# Altium schematic symbol library resistor.SCHLIB: 767 symbols (part 3 of 4)
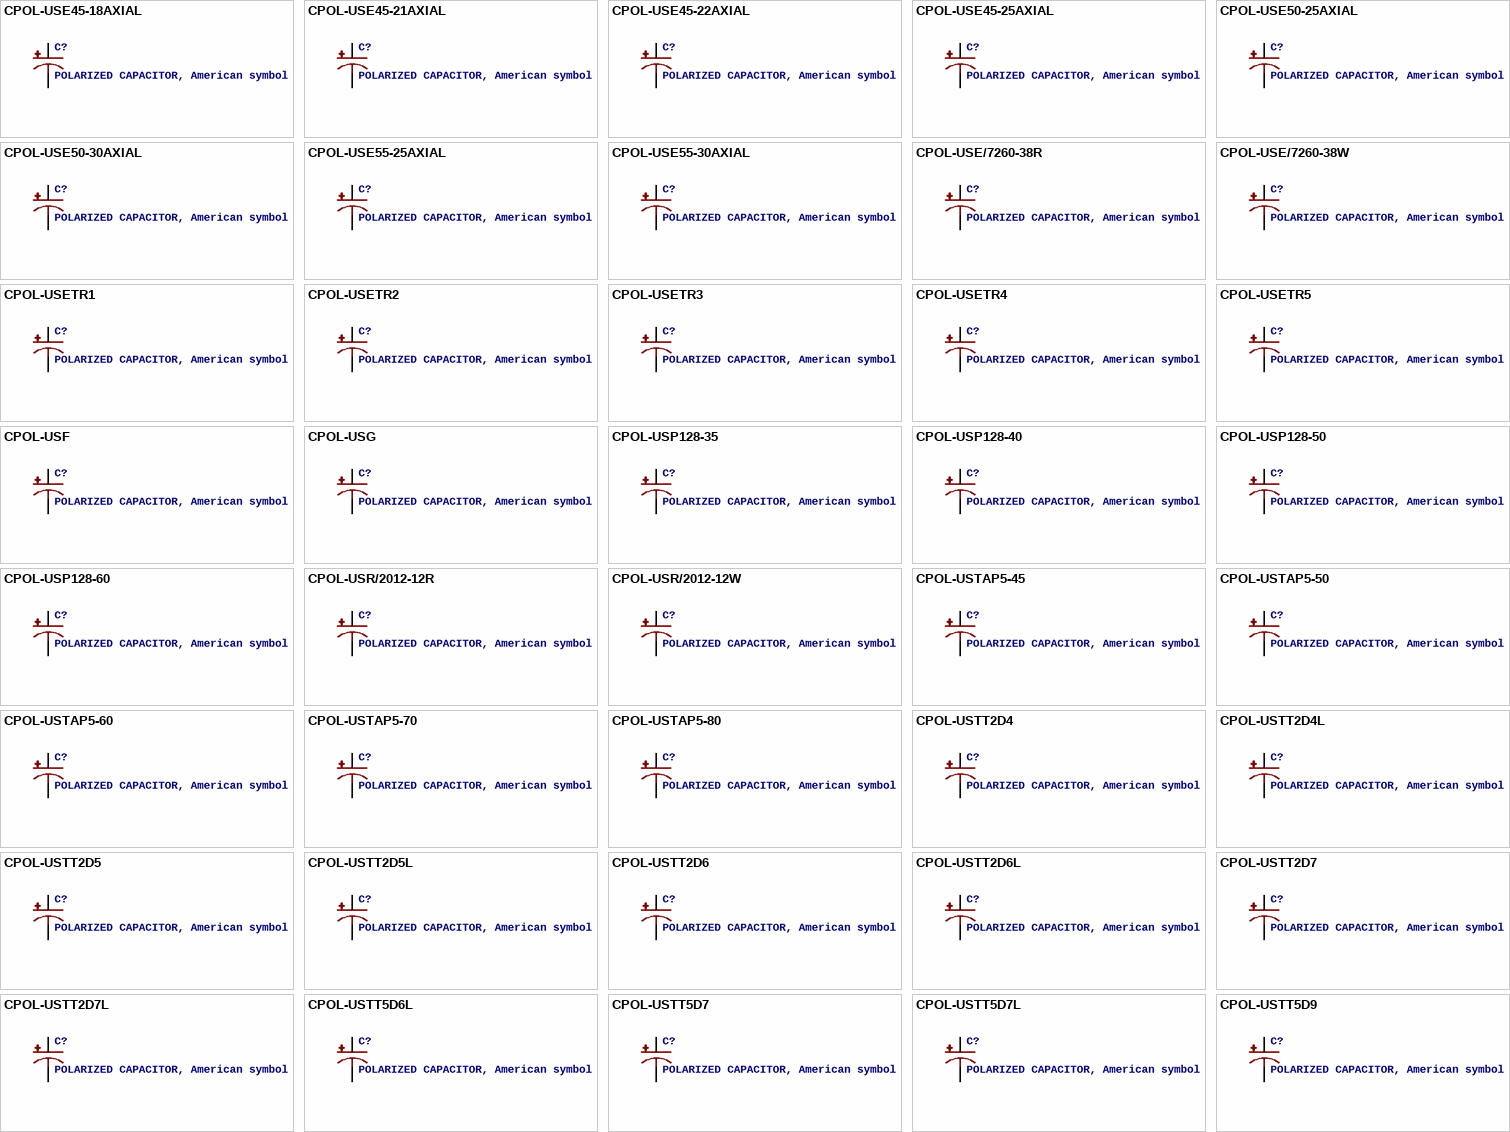
[diagram p21: symbols CPOL-USE45-18AXIAL to CPOL-USTT5D9]

## CPOL-USTT2D4L
designator C?, comment POLARIZED CAPACITOR, American symbol
GateName_1: G$1; SymbolName_1: CPOL-US; DeviceName: TT2D4L; LibraryName: resistor; DeviceSetName: CPOL-US; Package: TT2D4L
footprint TT2D4L
pins: +, -

## CPOL-USTT2D5
designator C?, comment POLARIZED CAPACITOR, American symbol
GateName_1: G$1; SymbolName_1: CPOL-US; DeviceName: TT2D5; LibraryName: resistor; DeviceSetName: CPOL-US; Package: TT2D5
footprint TT2D5
pins: +, -

## CPOL-USTT2D5L
designator C?, comment POLARIZED CAPACITOR, American symbol
GateName_1: G$1; SymbolName_1: CPOL-US; DeviceName: TT2D5L; LibraryName: resistor; DeviceSetName: CPOL-US; Package: TT2D5L
footprint TT2D5L
pins: +, -

## CPOL-USTT2D6
designator C?, comment POLARIZED CAPACITOR, American symbol
GateName_1: G$1; SymbolName_1: CPOL-US; DeviceName: TT2D6; LibraryName: resistor; DeviceSetName: CPOL-US; Package: TT2D6
footprint TT2D6
pins: +, -

## CPOL-USTT2D6L
designator C?, comment POLARIZED CAPACITOR, American symbol
GateName_1: G$1; SymbolName_1: CPOL-US; DeviceName: TT2D6L; LibraryName: resistor; DeviceSetName: CPOL-US; Package: TT2D6L
footprint TT2D6L
pins: +, -

## CPOL-USTT2D7
designator C?, comment POLARIZED CAPACITOR, American symbol
GateName_1: G$1; SymbolName_1: CPOL-US; DeviceName: TT2D7; LibraryName: resistor; DeviceSetName: CPOL-US; Package: TT2D7
footprint TT2D7
pins: +, -

## CPOL-USTT2D7L
designator C?, comment POLARIZED CAPACITOR, American symbol
GateName_1: G$1; SymbolName_1: CPOL-US; DeviceName: TT2D7L; LibraryName: resistor; DeviceSetName: CPOL-US; Package: TT2D7L
footprint TT2D7L
pins: +, -

## CPOL-USTT5D6L
designator C?, comment POLARIZED CAPACITOR, American symbol
GateName_1: G$1; SymbolName_1: CPOL-US; DeviceName: TT5D6L; LibraryName: resistor; DeviceSetName: CPOL-US; Package: TT5D6L
footprint TT5D6L
pins: +, -

## CPOL-USTT5D7
designator C?, comment POLARIZED CAPACITOR, American symbol
GateName_1: G$1; SymbolName_1: CPOL-US; DeviceName: TT5D7; LibraryName: resistor; DeviceSetName: CPOL-US; Package: TT5D7
footprint TT5D7
pins: +, -

## CPOL-USTT5D7L
designator C?, comment POLARIZED CAPACITOR, American symbol
GateName_1: G$1; SymbolName_1: CPOL-US; DeviceName: TT5D7L; LibraryName: resistor; DeviceSetName: CPOL-US; Package: TT5D7L
footprint TT5D7L
pins: +, -

## CPOL-USTT5D9
designator C?, comment POLARIZED CAPACITOR, American symbol
GateName_1: G$1; SymbolName_1: CPOL-US; DeviceName: TT5D9; LibraryName: resistor; DeviceSetName: CPOL-US; Package: TT5D9
footprint TT5D9
pins: +, -

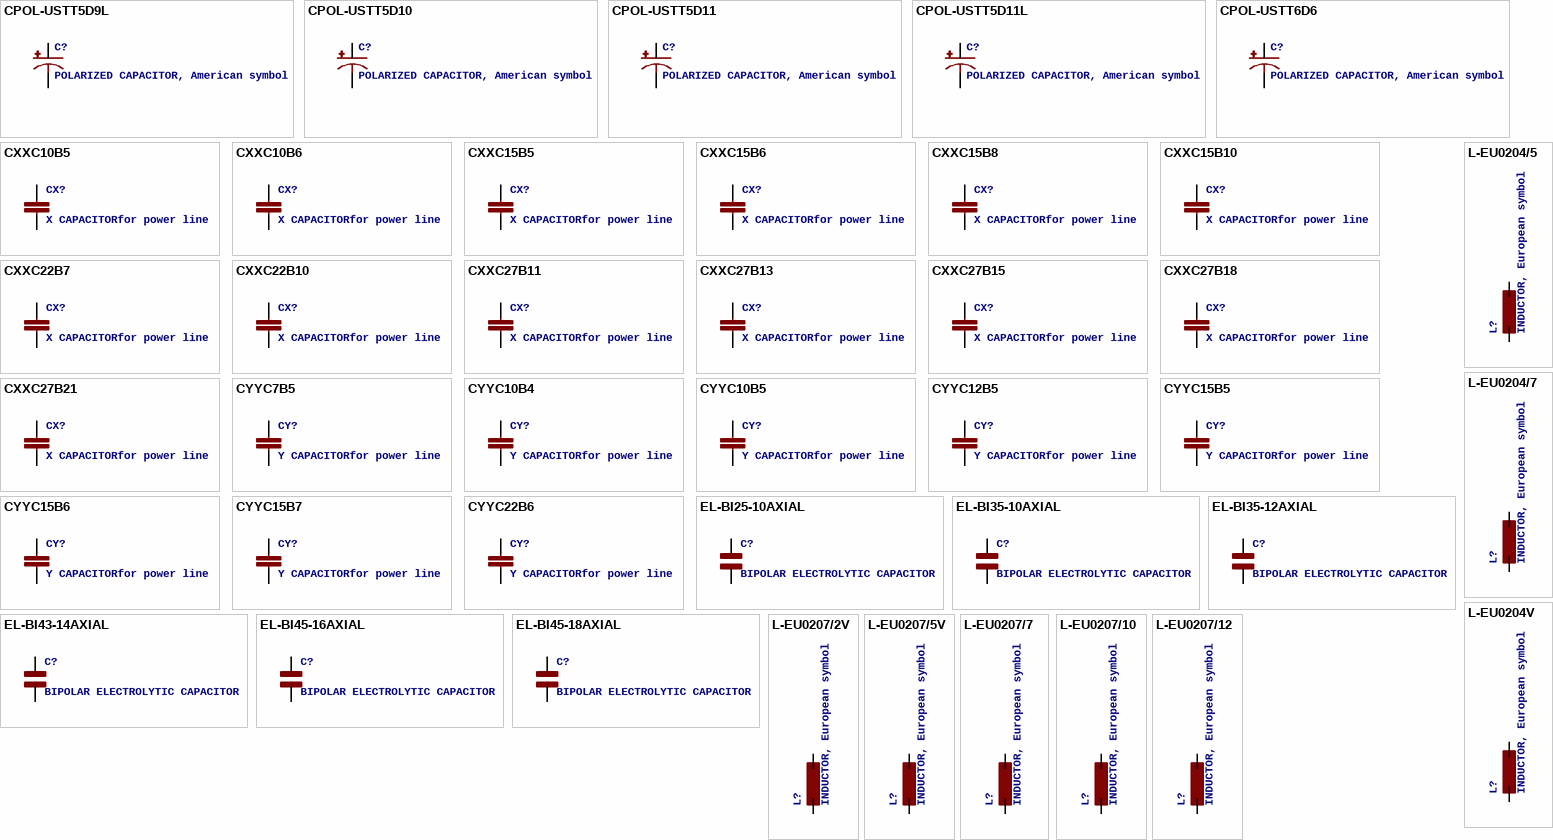
[diagram p11: symbols CPOL-USTT5D9L to L-EU0207/12]

## CPOL-USTT5D9L
designator C?, comment POLARIZED CAPACITOR, American symbol
GateName_1: G$1; SymbolName_1: CPOL-US; DeviceName: TT5D9L; LibraryName: resistor; DeviceSetName: CPOL-US; Package: TT5D9L
footprint TT5D9L
pins: +, -

## CPOL-USTT5D10
designator C?, comment POLARIZED CAPACITOR, American symbol
GateName_1: G$1; SymbolName_1: CPOL-US; DeviceName: TT5D10; LibraryName: resistor; DeviceSetName: CPOL-US; Package: TT5D10
footprint TT5D10
pins: +, -

## CPOL-USTT5D11
designator C?, comment POLARIZED CAPACITOR, American symbol
GateName_1: G$1; SymbolName_1: CPOL-US; DeviceName: TT5D11; LibraryName: resistor; DeviceSetName: CPOL-US; Package: TT5D11
footprint TT5D11
pins: +, -

## CPOL-USTT5D11L
designator C?, comment POLARIZED CAPACITOR, American symbol
GateName_1: G$1; SymbolName_1: CPOL-US; DeviceName: TT5D11L; LibraryName: resistor; DeviceSetName: CPOL-US; Package: TT5D11L
footprint TT5D11L
pins: +, -

## CPOL-USTT6D6
designator C?, comment POLARIZED CAPACITOR, American symbol
GateName_1: G$1; SymbolName_1: CPOL-US; DeviceName: TT6D6; LibraryName: resistor; DeviceSetName: CPOL-US; Package: TT5D6
footprint TT5D6
pins: +, -

## CXXC10B5
designator CX?, comment X CAPACITORfor power line
GateName_1: G$1; SymbolName_1: C-EU; DeviceName: XC10B5; DeviceSetName: CX; LibraryName: resistor; Package: XC10B5
footprint XC10B5
pins: 1, 2

## CXXC10B6
designator CX?, comment X CAPACITORfor power line
GateName_1: G$1; SymbolName_1: C-EU; DeviceName: XC10B6; DeviceSetName: CX; LibraryName: resistor; Package: XC10B6
footprint XC10B6
pins: 1, 2

## CXXC15B5
designator CX?, comment X CAPACITORfor power line
GateName_1: G$1; SymbolName_1: C-EU; DeviceName: XC15B5; DeviceSetName: CX; LibraryName: resistor; Package: XC15B5
footprint XC15B5
pins: 1, 2

## CXXC15B6
designator CX?, comment X CAPACITORfor power line
GateName_1: G$1; SymbolName_1: C-EU; DeviceName: XC15B6; DeviceSetName: CX; LibraryName: resistor; Package: XC15B6
footprint XC15B6
pins: 1, 2

## CXXC15B8
designator CX?, comment X CAPACITORfor power line
GateName_1: G$1; SymbolName_1: C-EU; DeviceName: XC15B8; DeviceSetName: CX; LibraryName: resistor; Package: XC15B8
footprint XC15B8
pins: 1, 2

## CXXC15B10
designator CX?, comment X CAPACITORfor power line
GateName_1: G$1; SymbolName_1: C-EU; DeviceName: XC15B10; DeviceSetName: CX; LibraryName: resistor; Package: XC15B10
footprint XC15B10
pins: 1, 2

## CXXC22B7
designator CX?, comment X CAPACITORfor power line
GateName_1: G$1; SymbolName_1: C-EU; DeviceName: XC22B7; DeviceSetName: CX; LibraryName: resistor; Package: XC22B7
footprint XC22B7
pins: 1, 2

## CXXC22B10
designator CX?, comment X CAPACITORfor power line
GateName_1: G$1; SymbolName_1: C-EU; DeviceName: XC22B10; DeviceSetName: CX; LibraryName: resistor; Package: XC22B10
footprint XC22B10
pins: 1, 2

## CXXC27B11
designator CX?, comment X CAPACITORfor power line
GateName_1: G$1; SymbolName_1: C-EU; DeviceName: XC27B11; DeviceSetName: CX; LibraryName: resistor; Package: XC27B11
footprint XC27B11
pins: 1, 2

## CXXC27B13
designator CX?, comment X CAPACITORfor power line
GateName_1: G$1; SymbolName_1: C-EU; DeviceName: XC27B13; DeviceSetName: CX; LibraryName: resistor; Package: XC27B13
footprint XC27B13
pins: 1, 2

## CXXC27B15
designator CX?, comment X CAPACITORfor power line
GateName_1: G$1; SymbolName_1: C-EU; DeviceName: XC27B15; DeviceSetName: CX; LibraryName: resistor; Package: XC27B15
footprint XC27B15
pins: 1, 2

## CXXC27B18
designator CX?, comment X CAPACITORfor power line
GateName_1: G$1; SymbolName_1: C-EU; DeviceName: XC27B18; DeviceSetName: CX; LibraryName: resistor; Package: XC27B18
footprint XC27B18
pins: 1, 2

## CXXC27B21
designator CX?, comment X CAPACITORfor power line
GateName_1: G$1; SymbolName_1: C-EU; DeviceName: XC27B21; DeviceSetName: CX; LibraryName: resistor; Package: XC27B21
footprint XC27B21
pins: 1, 2

## CYYC7B5
designator CY?, comment Y CAPACITORfor power line
GateName_1: G$1; SymbolName_1: C-EU; DeviceName: YC7B5; DeviceSetName: CY; LibraryName: resistor; Package: YC7B5
footprint YC7B5
pins: 1, 2

## CYYC10B4
designator CY?, comment Y CAPACITORfor power line
GateName_1: G$1; SymbolName_1: C-EU; DeviceName: YC10B4; DeviceSetName: CY; LibraryName: resistor; Package: YC10B4
footprint YC10B4
pins: 1, 2

## CYYC10B5
designator CY?, comment Y CAPACITORfor power line
GateName_1: G$1; SymbolName_1: C-EU; DeviceName: YC10B5; DeviceSetName: CY; LibraryName: resistor; Package: YC10B5
footprint YC10B5
pins: 1, 2

## CYYC12B5
designator CY?, comment Y CAPACITORfor power line
GateName_1: G$1; SymbolName_1: C-EU; DeviceName: YC12B5; DeviceSetName: CY; LibraryName: resistor; Package: YC12B5
footprint YC12B5
pins: 1, 2

## CYYC15B5
designator CY?, comment Y CAPACITORfor power line
GateName_1: G$1; SymbolName_1: C-EU; DeviceName: YC15B5; DeviceSetName: CY; LibraryName: resistor; Package: YC15B5
footprint YC15B5
pins: 1, 2

## CYYC15B6
designator CY?, comment Y CAPACITORfor power line
GateName_1: G$1; SymbolName_1: C-EU; DeviceName: YC15B6; DeviceSetName: CY; LibraryName: resistor; Package: YC15B6
footprint YC15B6
pins: 1, 2

## CYYC15B7
designator CY?, comment Y CAPACITORfor power line
GateName_1: G$1; SymbolName_1: C-EU; DeviceName: YC15B7; DeviceSetName: CY; LibraryName: resistor; Package: YC15B7
footprint YC15B7
pins: 1, 2

## CYYC22B6
designator CY?, comment Y CAPACITORfor power line
GateName_1: G$1; SymbolName_1: C-EU; DeviceName: YC22B6; DeviceSetName: CY; LibraryName: resistor; Package: YC22B7
footprint YC22B7
pins: 1, 2

## EL-BI25-10AXIAL
designator C?, comment BIPOLAR ELECTROLYTIC CAPACITOR
GateName_1: G$1; SymbolName_1: ELKO-BP; DeviceName: BI25-10AXIAL; DeviceSetName: EL-; LibraryName: resistor; Package: EU25-10
footprint EU25-10
pins: 1, 2

## EL-BI35-10AXIAL
designator C?, comment BIPOLAR ELECTROLYTIC CAPACITOR
GateName_1: G$1; SymbolName_1: ELKO-BP; DeviceName: BI35-10AXIAL; DeviceSetName: EL-; LibraryName: resistor; Package: EU35-10
footprint EU35-10
pins: 1, 2

## EL-BI35-12AXIAL
designator C?, comment BIPOLAR ELECTROLYTIC CAPACITOR
GateName_1: G$1; SymbolName_1: ELKO-BP; DeviceName: BI35-12AXIAL; DeviceSetName: EL-; LibraryName: resistor; Package: EU35-12
footprint EU35-12
pins: 1, 2

## EL-BI43-14AXIAL
designator C?, comment BIPOLAR ELECTROLYTIC CAPACITOR
GateName_1: G$1; SymbolName_1: ELKO-BP; DeviceName: BI43-14AXIAL; DeviceSetName: EL-; LibraryName: resistor; Package: EU43-14
footprint EU43-14
pins: 1, 2

## EL-BI45-16AXIAL
designator C?, comment BIPOLAR ELECTROLYTIC CAPACITOR
GateName_1: G$1; SymbolName_1: ELKO-BP; DeviceName: BI45-16AXIAL; DeviceSetName: EL-; LibraryName: resistor; Package: EU45-16
footprint EU45-16
pins: 1, 2

## EL-BI45-18AXIAL
designator C?, comment BIPOLAR ELECTROLYTIC CAPACITOR
GateName_1: G$1; SymbolName_1: ELKO-BP; DeviceName: BI45-18AXIAL; DeviceSetName: EL-; LibraryName: resistor; Package: EU45-18
footprint EU45-18
pins: 1, 2

## L-EU0204/5
designator L?, comment INDUCTOR, European symbol
GateName_1: G$1; SymbolName_1: L-EU; DeviceName: 0204/5; LibraryName: resistor; DeviceSetName: L-EU; Package: 0204/5
footprint 0204/5
pins: 1, 2

## L-EU0204/7
designator L?, comment INDUCTOR, European symbol
GateName_1: G$1; SymbolName_1: L-EU; DeviceName: 0204/7; LibraryName: resistor; DeviceSetName: L-EU; Package: 0204/7
footprint 0204/7
pins: 1, 2

## L-EU0204V
designator L?, comment INDUCTOR, European symbol
GateName_1: G$1; SymbolName_1: L-EU; DeviceName: 0204V; LibraryName: resistor; DeviceSetName: L-EU; Package: 0204V
footprint 0204V
pins: 1, 2

## L-EU0207/2V
designator L?, comment INDUCTOR, European symbol
GateName_1: G$1; SymbolName_1: L-EU; DeviceName: 0207/2V; LibraryName: resistor; DeviceSetName: L-EU; Package: 0207/2V
footprint 0207/2V
pins: 1, 2

## L-EU0207/5V
designator L?, comment INDUCTOR, European symbol
GateName_1: G$1; SymbolName_1: L-EU; DeviceName: 0207/5V; LibraryName: resistor; DeviceSetName: L-EU; Package: 0207/5V
footprint 0207/5V
pins: 1, 2

## L-EU0207/7
designator L?, comment INDUCTOR, European symbol
GateName_1: G$1; SymbolName_1: L-EU; DeviceName: 0207/7; LibraryName: resistor; DeviceSetName: L-EU; Package: 0207/7
footprint 0207/7
pins: 1, 2

## L-EU0207/10
designator L?, comment INDUCTOR, European symbol
GateName_1: G$1; SymbolName_1: L-EU; DeviceName: 0207/10; LibraryName: resistor; DeviceSetName: L-EU; Package: 0207/10
footprint 0207/10
pins: 1, 2

## L-EU0207/12
designator L?, comment INDUCTOR, European symbol
GateName_1: G$1; SymbolName_1: L-EU; DeviceName: 0207/12; LibraryName: resistor; DeviceSetName: L-EU; Package: 0207/12
footprint 0207/12
pins: 1, 2

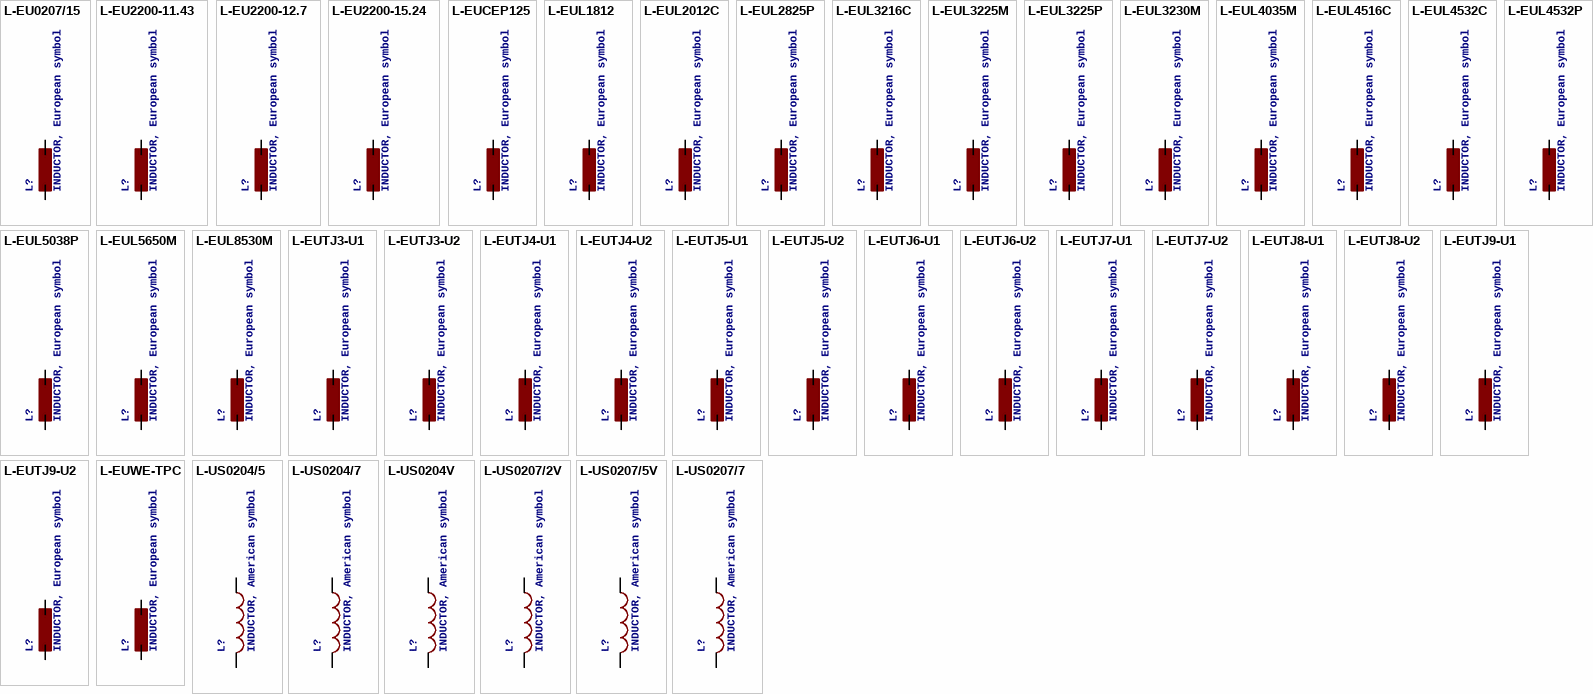
[diagram p12: symbols L-EU0207/15 to L-US0207/7]

## L-EU0207/15
designator L?, comment INDUCTOR, European symbol
GateName_1: G$1; SymbolName_1: L-EU; DeviceName: 0207/15; LibraryName: resistor; DeviceSetName: L-EU; Package: 0207/15
footprint 0207/15
pins: 1, 2

## L-EU2200-11.43
designator L?, comment INDUCTOR, European symbol
GateName_1: G$1; SymbolName_1: L-EU; DeviceName: 2200-11.43; LibraryName: resistor; DeviceSetName: L-EU; Package: 2200-11.43
footprint 2200-11.43
pins: 1, 2

## L-EU2200-12.7
designator L?, comment INDUCTOR, European symbol
GateName_1: G$1; SymbolName_1: L-EU; DeviceName: 2200-12.7; LibraryName: resistor; DeviceSetName: L-EU; Package: 2200-12.7
footprint 2200-12.7
pins: 1, 2

## L-EU2200-15.24
designator L?, comment INDUCTOR, European symbol
GateName_1: G$1; SymbolName_1: L-EU; DeviceName: 2200-15.24; LibraryName: resistor; DeviceSetName: L-EU; Package: 2200-15.24
footprint 2200-15.24
pins: 1, 2

## L-EUCEP125
designator L?, comment INDUCTOR, European symbol
GateName_1: G$1; SymbolName_1: L-EU; DeviceName: CEP125; LibraryName: resistor; DeviceSetName: L-EU; Package: CEP125
footprint CEP125
pins: 1, 2

## L-EUL1812
designator L?, comment INDUCTOR, European symbol
GateName_1: G$1; SymbolName_1: L-EU; DeviceName: L1812; LibraryName: resistor; DeviceSetName: L-EU; Package: L1812
footprint L1812
pins: 1, 2

## L-EUL2012C
designator L?, comment INDUCTOR, European symbol
GateName_1: G$1; SymbolName_1: L-EU; DeviceName: L2012C; LibraryName: resistor; DeviceSetName: L-EU; Package: L2012C
footprint L2012C
pins: 1, 2

## L-EUL2825P
designator L?, comment INDUCTOR, European symbol
GateName_1: G$1; SymbolName_1: L-EU; DeviceName: L2825P; LibraryName: resistor; DeviceSetName: L-EU; Package: L2825P
footprint L2825P
pins: 1, 2

## L-EUL3216C
designator L?, comment INDUCTOR, European symbol
GateName_1: G$1; SymbolName_1: L-EU; DeviceName: L3216C; LibraryName: resistor; DeviceSetName: L-EU; Package: L3216C
footprint L3216C
pins: 1, 2

## L-EUL3225M
designator L?, comment INDUCTOR, European symbol
GateName_1: G$1; SymbolName_1: L-EU; DeviceName: L3225M; LibraryName: resistor; DeviceSetName: L-EU; Package: L3225M
footprint L3225M
pins: 1, 2

## L-EUL3225P
designator L?, comment INDUCTOR, European symbol
GateName_1: G$1; SymbolName_1: L-EU; DeviceName: L3225P; LibraryName: resistor; DeviceSetName: L-EU; Package: L3225P
footprint L3225P
pins: 1, 2

## L-EUL3230M
designator L?, comment INDUCTOR, European symbol
GateName_1: G$1; SymbolName_1: L-EU; DeviceName: L3230M; LibraryName: resistor; DeviceSetName: L-EU; Package: L3230M
footprint L3230M
pins: 1, 2

## L-EUL4035M
designator L?, comment INDUCTOR, European symbol
GateName_1: G$1; SymbolName_1: L-EU; DeviceName: L4035M; LibraryName: resistor; DeviceSetName: L-EU; Package: L4035M
footprint L4035M
pins: 1, 2

## L-EUL4516C
designator L?, comment INDUCTOR, European symbol
GateName_1: G$1; SymbolName_1: L-EU; DeviceName: L4516C; LibraryName: resistor; DeviceSetName: L-EU; Package: L4516C
footprint L4516C
pins: 1, 2

## L-EUL4532C
designator L?, comment INDUCTOR, European symbol
GateName_1: G$1; SymbolName_1: L-EU; DeviceName: L4532C; LibraryName: resistor; DeviceSetName: L-EU; Package: L4532M
footprint L4532M
pins: 1, 2

## L-EUL4532P
designator L?, comment INDUCTOR, European symbol
GateName_1: G$1; SymbolName_1: L-EU; DeviceName: L4532P; LibraryName: resistor; DeviceSetName: L-EU; Package: L4532P
footprint L4532P
pins: 1, 2

## L-EUL5038P
designator L?, comment INDUCTOR, European symbol
GateName_1: G$1; SymbolName_1: L-EU; DeviceName: L5038P; LibraryName: resistor; DeviceSetName: L-EU; Package: L5038P
footprint L5038P
pins: 1, 2

## L-EUL5650M
designator L?, comment INDUCTOR, European symbol
GateName_1: G$1; SymbolName_1: L-EU; DeviceName: L5650M; LibraryName: resistor; DeviceSetName: L-EU; Package: L5650M
footprint L5650M
pins: 1, 2

## L-EUL8530M
designator L?, comment INDUCTOR, European symbol
GateName_1: G$1; SymbolName_1: L-EU; DeviceName: L8530M; LibraryName: resistor; DeviceSetName: L-EU; Package: L8530M
footprint L8530M
pins: 1, 2

## L-EUTJ3-U1
designator L?, comment INDUCTOR, European symbol
GateName_1: G$1; SymbolName_1: L-EU; DeviceName: TJ3-U1; LibraryName: resistor; DeviceSetName: L-EU; Package: TJ3-U1
footprint TJ3-U1
pins: 1, 2

## L-EUTJ3-U2
designator L?, comment INDUCTOR, European symbol
GateName_1: G$1; SymbolName_1: L-EU; DeviceName: TJ3-U2; LibraryName: resistor; DeviceSetName: L-EU; Package: TJ3-U2
footprint TJ3-U2
pins: 1, 2

## L-EUTJ4-U1
designator L?, comment INDUCTOR, European symbol
GateName_1: G$1; SymbolName_1: L-EU; DeviceName: TJ4-U1; LibraryName: resistor; DeviceSetName: L-EU; Package: TJ4-U1
footprint TJ4-U1
pins: 1, 2

## L-EUTJ4-U2
designator L?, comment INDUCTOR, European symbol
GateName_1: G$1; SymbolName_1: L-EU; DeviceName: TJ4-U2; LibraryName: resistor; DeviceSetName: L-EU; Package: TJ4-U2
footprint TJ4-U2
pins: 1, 2

## L-EUTJ5-U1
designator L?, comment INDUCTOR, European symbol
GateName_1: G$1; SymbolName_1: L-EU; DeviceName: TJ5-U1; LibraryName: resistor; DeviceSetName: L-EU; Package: TJ5-U1
footprint TJ5-U1
pins: 1, 2

## L-EUTJ5-U2
designator L?, comment INDUCTOR, European symbol
GateName_1: G$1; SymbolName_1: L-EU; DeviceName: TJ5-U2; LibraryName: resistor; DeviceSetName: L-EU; Package: TJ5-U2
footprint TJ5-U2
pins: 1, 2

## L-EUTJ6-U1
designator L?, comment INDUCTOR, European symbol
GateName_1: G$1; SymbolName_1: L-EU; DeviceName: TJ6-U1; LibraryName: resistor; DeviceSetName: L-EU; Package: TJ6-U1
footprint TJ6-U1
pins: 1, 2

## L-EUTJ6-U2
designator L?, comment INDUCTOR, European symbol
GateName_1: G$1; SymbolName_1: L-EU; DeviceName: TJ6-U2; LibraryName: resistor; DeviceSetName: L-EU; Package: TJ6-U2
footprint TJ6-U2
pins: 1, 2

## L-EUTJ7-U1
designator L?, comment INDUCTOR, European symbol
GateName_1: G$1; SymbolName_1: L-EU; DeviceName: TJ7-U1; LibraryName: resistor; DeviceSetName: L-EU; Package: TJ7-U1
footprint TJ7-U1
pins: 1, 2

## L-EUTJ7-U2
designator L?, comment INDUCTOR, European symbol
GateName_1: G$1; SymbolName_1: L-EU; DeviceName: TJ7-U2; LibraryName: resistor; DeviceSetName: L-EU; Package: TJ7-U2
footprint TJ7-U2
pins: 1, 2

## L-EUTJ8-U1
designator L?, comment INDUCTOR, European symbol
GateName_1: G$1; SymbolName_1: L-EU; DeviceName: TJ8-U1; LibraryName: resistor; DeviceSetName: L-EU; Package: TJ8-U1
footprint TJ8-U1
pins: 1, 2

## L-EUTJ8-U2
designator L?, comment INDUCTOR, European symbol
GateName_1: G$1; SymbolName_1: L-EU; DeviceName: TJ8-U2; LibraryName: resistor; DeviceSetName: L-EU; Package: TJ8-U2
footprint TJ8-U2
pins: 1, 2

## L-EUTJ9-U1
designator L?, comment INDUCTOR, European symbol
GateName_1: G$1; SymbolName_1: L-EU; DeviceName: TJ9-U1; LibraryName: resistor; DeviceSetName: L-EU; Package: TJ9-U1
footprint TJ9-U1
pins: 1, 2

## L-EUTJ9-U2
designator L?, comment INDUCTOR, European symbol
GateName_1: G$1; SymbolName_1: L-EU; DeviceName: TJ9-U2; LibraryName: resistor; DeviceSetName: L-EU; Package: TJ9-U2
footprint TJ9-U2
pins: 1, 2

## L-EUWE-TPC
designator L?, comment INDUCTOR, European symbol
GateName_1: G$1; SymbolName_1: L-EU; DeviceName: WE-TPC; LibraryName: resistor; DeviceSetName: L-EU; Package: POWER-CHOKE_WE-TPC
footprint POWER-CHOKE_WE-TPC
pins: 1, 2

## L-US0204/5
designator L?, comment INDUCTOR, American symbol
GateName_1: G$1; SymbolName_1: L-US; DeviceName: 0204/5; LibraryName: resistor; DeviceSetName: L-US; Package: 0204/5
footprint 0204/5
pins: 1, 2

## L-US0204/7
designator L?, comment INDUCTOR, American symbol
GateName_1: G$1; SymbolName_1: L-US; DeviceName: 0204/7; LibraryName: resistor; DeviceSetName: L-US; Package: 0204/7
footprint 0204/7
pins: 1, 2

## L-US0204V
designator L?, comment INDUCTOR, American symbol
GateName_1: G$1; SymbolName_1: L-US; DeviceName: 0204V; LibraryName: resistor; DeviceSetName: L-US; Package: 0204V
footprint 0204V
pins: 1, 2

## L-US0207/2V
designator L?, comment INDUCTOR, American symbol
GateName_1: G$1; SymbolName_1: L-US; DeviceName: 0207/2V; LibraryName: resistor; DeviceSetName: L-US; Package: 0207/2V
footprint 0207/2V
pins: 1, 2

## L-US0207/5V
designator L?, comment INDUCTOR, American symbol
GateName_1: G$1; SymbolName_1: L-US; DeviceName: 0207/5V; LibraryName: resistor; DeviceSetName: L-US; Package: 0207/5V
footprint 0207/5V
pins: 1, 2

## L-US0207/7
designator L?, comment INDUCTOR, American symbol
GateName_1: G$1; SymbolName_1: L-US; DeviceName: 0207/7; LibraryName: resistor; DeviceSetName: L-US; Package: 0207/7
footprint 0207/7
pins: 1, 2

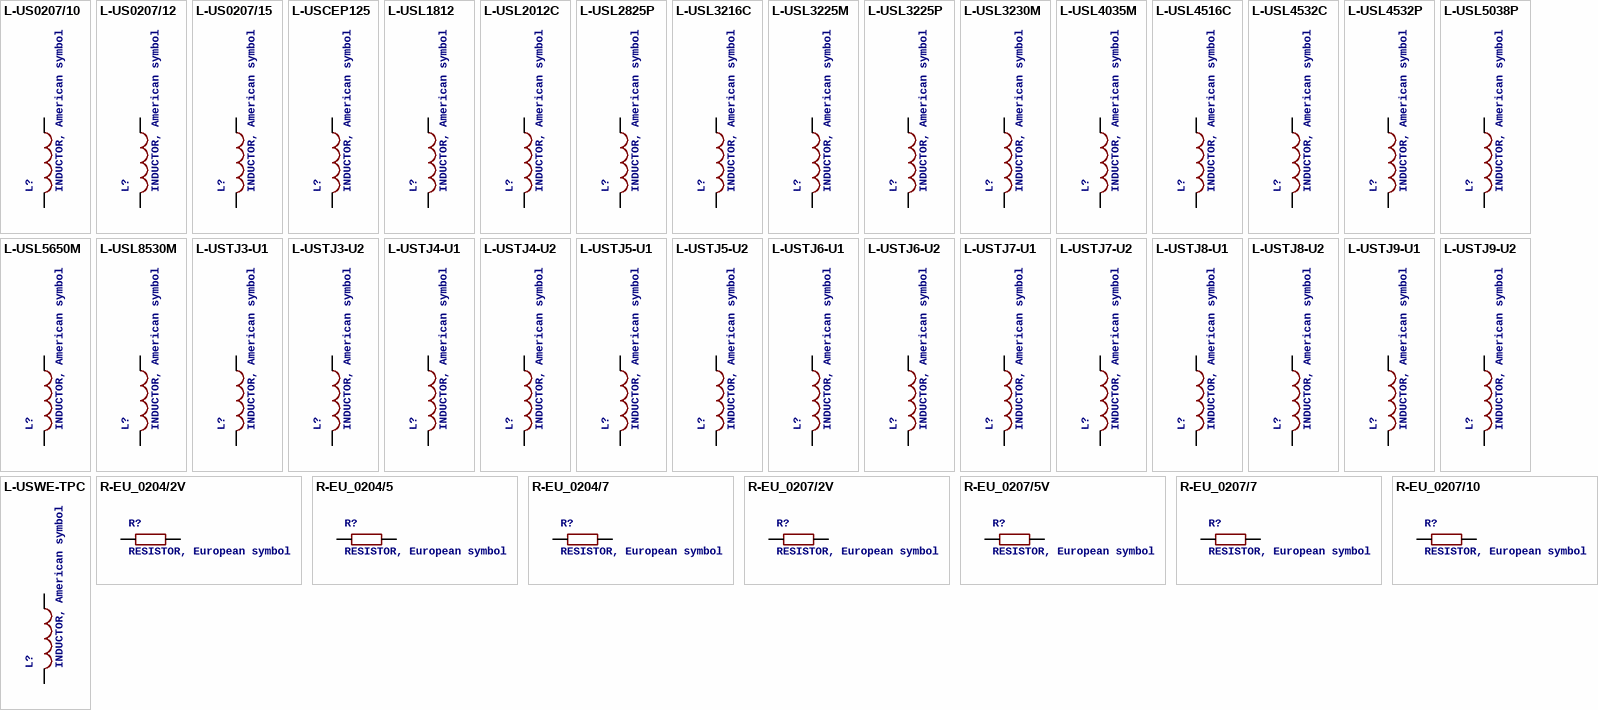
[diagram p13: symbols L-US0207/10 to R-EU_0207/10]

## L-US0207/10
designator L?, comment INDUCTOR, American symbol
GateName_1: G$1; SymbolName_1: L-US; DeviceName: 0207/10; LibraryName: resistor; DeviceSetName: L-US; Package: 0207/10
footprint 0207/10
pins: 1, 2

## L-US0207/12
designator L?, comment INDUCTOR, American symbol
GateName_1: G$1; SymbolName_1: L-US; DeviceName: 0207/12; LibraryName: resistor; DeviceSetName: L-US; Package: 0207/12
footprint 0207/12
pins: 1, 2

## L-US0207/15
designator L?, comment INDUCTOR, American symbol
GateName_1: G$1; SymbolName_1: L-US; DeviceName: 0207/15; LibraryName: resistor; DeviceSetName: L-US; Package: 0207/15
footprint 0207/15
pins: 1, 2

## L-USCEP125
designator L?, comment INDUCTOR, American symbol
GateName_1: G$1; SymbolName_1: L-US; DeviceName: CEP125; LibraryName: resistor; DeviceSetName: L-US; Package: CEP125
footprint CEP125
pins: 1, 2

## L-USL1812
designator L?, comment INDUCTOR, American symbol
GateName_1: G$1; SymbolName_1: L-US; DeviceName: L1812; LibraryName: resistor; DeviceSetName: L-US; Package: L1812
footprint L1812
pins: 1, 2

## L-USL2012C
designator L?, comment INDUCTOR, American symbol
GateName_1: G$1; SymbolName_1: L-US; DeviceName: L2012C; LibraryName: resistor; DeviceSetName: L-US; Package: L2012C
footprint L2012C
pins: 1, 2

## L-USL2825P
designator L?, comment INDUCTOR, American symbol
GateName_1: G$1; SymbolName_1: L-US; DeviceName: L2825P; LibraryName: resistor; DeviceSetName: L-US; Package: L2825P
footprint L2825P
pins: 1, 2

## L-USL3216C
designator L?, comment INDUCTOR, American symbol
GateName_1: G$1; SymbolName_1: L-US; DeviceName: L3216C; LibraryName: resistor; DeviceSetName: L-US; Package: L3216C
footprint L3216C
pins: 1, 2

## L-USL3225M
designator L?, comment INDUCTOR, American symbol
GateName_1: G$1; SymbolName_1: L-US; DeviceName: L3225M; LibraryName: resistor; DeviceSetName: L-US; Package: L3225M
footprint L3225M
pins: 1, 2

## L-USL3225P
designator L?, comment INDUCTOR, American symbol
GateName_1: G$1; SymbolName_1: L-US; DeviceName: L3225P; LibraryName: resistor; DeviceSetName: L-US; Package: L3225P
footprint L3225P
pins: 1, 2

## L-USL3230M
designator L?, comment INDUCTOR, American symbol
GateName_1: G$1; SymbolName_1: L-US; DeviceName: L3230M; LibraryName: resistor; DeviceSetName: L-US; Package: L3230M
footprint L3230M
pins: 1, 2

## L-USL4035M
designator L?, comment INDUCTOR, American symbol
GateName_1: G$1; SymbolName_1: L-US; DeviceName: L4035M; LibraryName: resistor; DeviceSetName: L-US; Package: L4035M
footprint L4035M
pins: 1, 2

## L-USL4516C
designator L?, comment INDUCTOR, American symbol
GateName_1: G$1; SymbolName_1: L-US; DeviceName: L4516C; LibraryName: resistor; DeviceSetName: L-US; Package: L4516C
footprint L4516C
pins: 1, 2

## L-USL4532C
designator L?, comment INDUCTOR, American symbol
GateName_1: G$1; SymbolName_1: L-US; DeviceName: L4532C; LibraryName: resistor; DeviceSetName: L-US; Package: L4532M
footprint L4532M
pins: 1, 2

## L-USL4532P
designator L?, comment INDUCTOR, American symbol
GateName_1: G$1; SymbolName_1: L-US; DeviceName: L4532P; LibraryName: resistor; DeviceSetName: L-US; Package: L4532P
footprint L4532P
pins: 1, 2

## L-USL5038P
designator L?, comment INDUCTOR, American symbol
GateName_1: G$1; SymbolName_1: L-US; DeviceName: L5038P; LibraryName: resistor; DeviceSetName: L-US; Package: L5038P
footprint L5038P
pins: 1, 2

## L-USL5650M
designator L?, comment INDUCTOR, American symbol
GateName_1: G$1; SymbolName_1: L-US; DeviceName: L5650M; LibraryName: resistor; DeviceSetName: L-US; Package: L5650M
footprint L5650M
pins: 1, 2

## L-USL8530M
designator L?, comment INDUCTOR, American symbol
GateName_1: G$1; SymbolName_1: L-US; DeviceName: L8530M; LibraryName: resistor; DeviceSetName: L-US; Package: L8530M
footprint L8530M
pins: 1, 2

## L-USTJ3-U1
designator L?, comment INDUCTOR, American symbol
GateName_1: G$1; SymbolName_1: L-US; DeviceName: TJ3-U1; LibraryName: resistor; DeviceSetName: L-US; Package: TJ3-U1
footprint TJ3-U1
pins: 1, 2

## L-USTJ3-U2
designator L?, comment INDUCTOR, American symbol
GateName_1: G$1; SymbolName_1: L-US; DeviceName: TJ3-U2; LibraryName: resistor; DeviceSetName: L-US; Package: TJ3-U2
footprint TJ3-U2
pins: 1, 2

## L-USTJ4-U1
designator L?, comment INDUCTOR, American symbol
GateName_1: G$1; SymbolName_1: L-US; DeviceName: TJ4-U1; LibraryName: resistor; DeviceSetName: L-US; Package: TJ4-U1
footprint TJ4-U1
pins: 1, 2

## L-USTJ4-U2
designator L?, comment INDUCTOR, American symbol
GateName_1: G$1; SymbolName_1: L-US; DeviceName: TJ4-U2; LibraryName: resistor; DeviceSetName: L-US; Package: TJ4-U2
footprint TJ4-U2
pins: 1, 2

## L-USTJ5-U1
designator L?, comment INDUCTOR, American symbol
GateName_1: G$1; SymbolName_1: L-US; DeviceName: TJ5-U1; LibraryName: resistor; DeviceSetName: L-US; Package: TJ5-U1
footprint TJ5-U1
pins: 1, 2

## L-USTJ5-U2
designator L?, comment INDUCTOR, American symbol
GateName_1: G$1; SymbolName_1: L-US; DeviceName: TJ5-U2; LibraryName: resistor; DeviceSetName: L-US; Package: TJ5-U2
footprint TJ5-U2
pins: 1, 2

## L-USTJ6-U1
designator L?, comment INDUCTOR, American symbol
GateName_1: G$1; SymbolName_1: L-US; DeviceName: TJ6-U1; LibraryName: resistor; DeviceSetName: L-US; Package: TJ6-U1
footprint TJ6-U1
pins: 1, 2

## L-USTJ6-U2
designator L?, comment INDUCTOR, American symbol
GateName_1: G$1; SymbolName_1: L-US; DeviceName: TJ6-U2; LibraryName: resistor; DeviceSetName: L-US; Package: TJ6-U2
footprint TJ6-U2
pins: 1, 2

## L-USTJ7-U1
designator L?, comment INDUCTOR, American symbol
GateName_1: G$1; SymbolName_1: L-US; DeviceName: TJ7-U1; LibraryName: resistor; DeviceSetName: L-US; Package: TJ7-U1
footprint TJ7-U1
pins: 1, 2

## L-USTJ7-U2
designator L?, comment INDUCTOR, American symbol
GateName_1: G$1; SymbolName_1: L-US; DeviceName: TJ7-U2; LibraryName: resistor; DeviceSetName: L-US; Package: TJ7-U2
footprint TJ7-U2
pins: 1, 2

## L-USTJ8-U1
designator L?, comment INDUCTOR, American symbol
GateName_1: G$1; SymbolName_1: L-US; DeviceName: TJ8-U1; LibraryName: resistor; DeviceSetName: L-US; Package: TJ8-U1
footprint TJ8-U1
pins: 1, 2

## L-USTJ8-U2
designator L?, comment INDUCTOR, American symbol
GateName_1: G$1; SymbolName_1: L-US; DeviceName: TJ8-U2; LibraryName: resistor; DeviceSetName: L-US; Package: TJ8-U2
footprint TJ8-U2
pins: 1, 2

## L-USTJ9-U1
designator L?, comment INDUCTOR, American symbol
GateName_1: G$1; SymbolName_1: L-US; DeviceName: TJ9-U1; LibraryName: resistor; DeviceSetName: L-US; Package: TJ9-U1
footprint TJ9-U1
pins: 1, 2

## L-USTJ9-U2
designator L?, comment INDUCTOR, American symbol
GateName_1: G$1; SymbolName_1: L-US; DeviceName: TJ9-U2; LibraryName: resistor; DeviceSetName: L-US; Package: TJ9-U2
footprint TJ9-U2
pins: 1, 2

## L-USWE-TPC
designator L?, comment INDUCTOR, American symbol
GateName_1: G$1; SymbolName_1: L-US; DeviceName: WE-TPC; LibraryName: resistor; DeviceSetName: L-US; Package: POWER-CHOKE_WE-TPC
footprint POWER-CHOKE_WE-TPC
pins: 1, 2

## R-EU_0204/2V
designator R?, comment RESISTOR, European symbol
GateName_1: G$1; SymbolName_1: R-EU-1; DeviceName: 0204/2V; DeviceSetName: R-EU_; LibraryName: resistor; Package: 0204V
footprint 0204V
pins: 1, 2

## R-EU_0204/5
designator R?, comment RESISTOR, European symbol
GateName_1: G$1; SymbolName_1: R-EU-1; DeviceName: 0204/5; DeviceSetName: R-EU_; LibraryName: resistor; Package: 0204/5
footprint 0204/5
pins: 1, 2

## R-EU_0204/7
designator R?, comment RESISTOR, European symbol
GateName_1: G$1; SymbolName_1: R-EU-1; DeviceName: 0204/7; DeviceSetName: R-EU_; LibraryName: resistor; Package: 0204/7
footprint 0204/7
pins: 1, 2

## R-EU_0207/2V
designator R?, comment RESISTOR, European symbol
GateName_1: G$1; SymbolName_1: R-EU-1; DeviceName: 0207/2V; DeviceSetName: R-EU_; LibraryName: resistor; Package: 0207/2V
footprint 0207/2V
pins: 1, 2

## R-EU_0207/5V
designator R?, comment RESISTOR, European symbol
GateName_1: G$1; SymbolName_1: R-EU-1; DeviceName: 0207/5V; DeviceSetName: R-EU_; LibraryName: resistor; Package: 0207/5V
footprint 0207/5V
pins: 1, 2

## R-EU_0207/7
designator R?, comment RESISTOR, European symbol
GateName_1: G$1; SymbolName_1: R-EU-1; DeviceName: 0207/7; DeviceSetName: R-EU_; LibraryName: resistor; Package: 0207/7
footprint 0207/7
pins: 1, 2

## R-EU_0207/10
designator R?, comment RESISTOR, European symbol
GateName_1: G$1; SymbolName_1: R-EU-1; DeviceName: 0207/10; DeviceSetName: R-EU_; LibraryName: resistor; Package: 0207/10
footprint 0207/10
pins: 1, 2

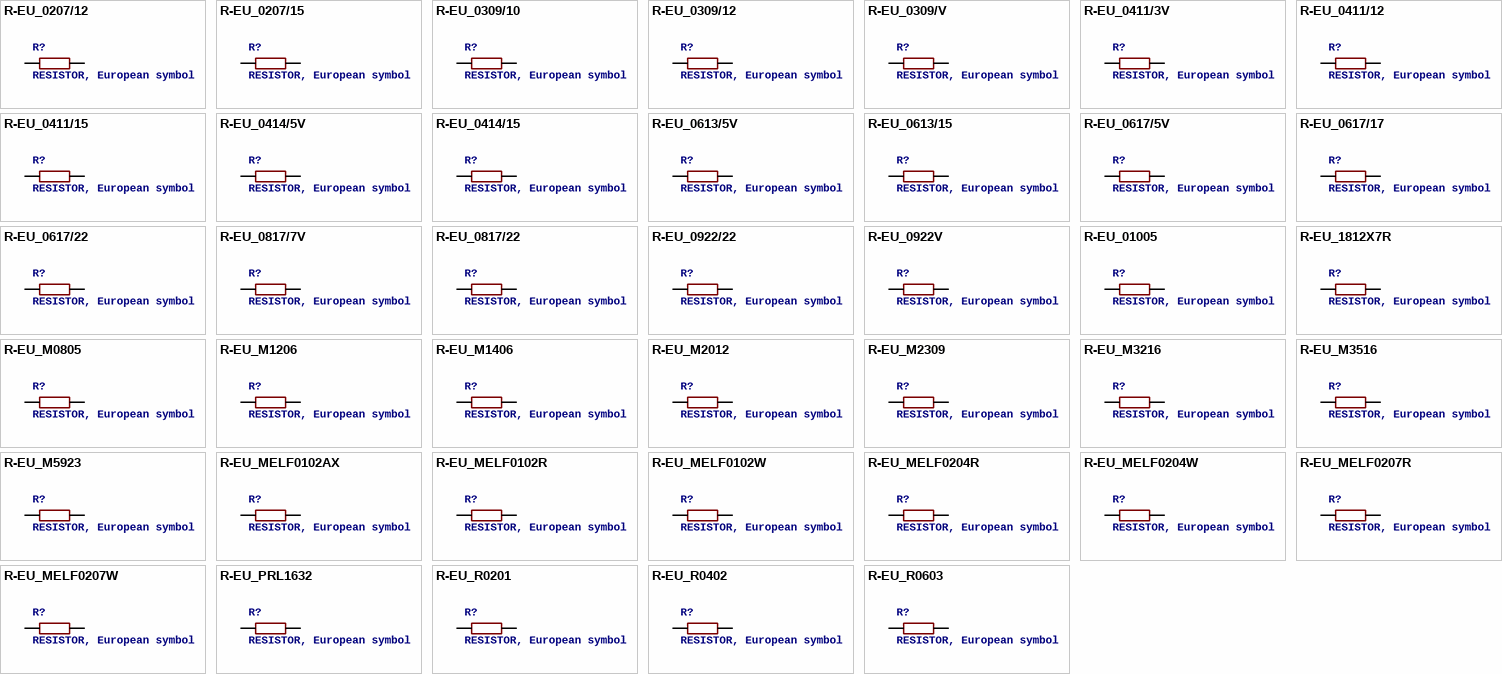
[diagram p14: symbols R-EU_0207/12 to R-EU_R0603]

## R-EU_0207/12
designator R?, comment RESISTOR, European symbol
GateName_1: G$1; SymbolName_1: R-EU-1; DeviceName: 0207/12; DeviceSetName: R-EU_; LibraryName: resistor; Package: 0207/12
footprint 0207/12
pins: 1, 2

## R-EU_0207/15
designator R?, comment RESISTOR, European symbol
GateName_1: G$1; SymbolName_1: R-EU-1; DeviceName: 0207/15; DeviceSetName: R-EU_; LibraryName: resistor; Package: 0207/15
footprint 0207/15
pins: 1, 2

## R-EU_0309/10
designator R?, comment RESISTOR, European symbol
GateName_1: G$1; SymbolName_1: R-EU-1; DeviceName: 0309/10; DeviceSetName: R-EU_; LibraryName: resistor; Package: 0309/10
footprint 0309/10
pins: 1, 2

## R-EU_0309/12
designator R?, comment RESISTOR, European symbol
GateName_1: G$1; SymbolName_1: R-EU-1; DeviceName: 0309/12; DeviceSetName: R-EU_; LibraryName: resistor; Package: 0309/12
footprint 0309/12
pins: 1, 2

## R-EU_0309/V
designator R?, comment RESISTOR, European symbol
GateName_1: G$1; SymbolName_1: R-EU-1; DeviceName: 0309/V; DeviceSetName: R-EU_; LibraryName: resistor; Package: 0309V
footprint 0309V
pins: 1, 2

## R-EU_0411/3V
designator R?, comment RESISTOR, European symbol
GateName_1: G$1; SymbolName_1: R-EU-1; DeviceName: 0411/3V; DeviceSetName: R-EU_; LibraryName: resistor; Package: 0411V
footprint 0411V
pins: 1, 2

## R-EU_0411/12
designator R?, comment RESISTOR, European symbol
GateName_1: G$1; SymbolName_1: R-EU-1; DeviceName: 0411/12; DeviceSetName: R-EU_; LibraryName: resistor; Package: 0411/12
footprint 0411/12
pins: 1, 2

## R-EU_0411/15
designator R?, comment RESISTOR, European symbol
GateName_1: G$1; SymbolName_1: R-EU-1; DeviceName: 0411/15; DeviceSetName: R-EU_; LibraryName: resistor; Package: 0411/15
footprint 0411/15
pins: 1, 2

## R-EU_0414/5V
designator R?, comment RESISTOR, European symbol
GateName_1: G$1; SymbolName_1: R-EU-1; DeviceName: 0414/5V; DeviceSetName: R-EU_; LibraryName: resistor; Package: 0414V
footprint 0414V
pins: 1, 2

## R-EU_0414/15
designator R?, comment RESISTOR, European symbol
GateName_1: G$1; SymbolName_1: R-EU-1; DeviceName: 0414/15; DeviceSetName: R-EU_; LibraryName: resistor; Package: 0414/15
footprint 0414/15
pins: 1, 2

## R-EU_0613/5V
designator R?, comment RESISTOR, European symbol
GateName_1: G$1; SymbolName_1: R-EU-1; DeviceName: 0613/5V; DeviceSetName: R-EU_; LibraryName: resistor; Package: P0613V
footprint P0613V
pins: 1, 2

## R-EU_0613/15
designator R?, comment RESISTOR, European symbol
GateName_1: G$1; SymbolName_1: R-EU-1; DeviceName: 0613/15; DeviceSetName: R-EU_; LibraryName: resistor; Package: P0613/15
footprint P0613/15
pins: 1, 2

## R-EU_0617/5V
designator R?, comment RESISTOR, European symbol
GateName_1: G$1; SymbolName_1: R-EU-1; DeviceName: 0617/5V; DeviceSetName: R-EU_; LibraryName: resistor; Package: 0617V
footprint 0617V
pins: 1, 2

## R-EU_0617/17
designator R?, comment RESISTOR, European symbol
GateName_1: G$1; SymbolName_1: R-EU-1; DeviceName: 0617/17; DeviceSetName: R-EU_; LibraryName: resistor; Package: 0617/17
footprint 0617/17
pins: 1, 2

## R-EU_0617/22
designator R?, comment RESISTOR, European symbol
GateName_1: G$1; SymbolName_1: R-EU-1; DeviceName: 0617/22; DeviceSetName: R-EU_; LibraryName: resistor; Package: 0617/22
footprint 0617/22
pins: 1, 2

## R-EU_0817/7V
designator R?, comment RESISTOR, European symbol
GateName_1: G$1; SymbolName_1: R-EU-1; DeviceName: 0817/7V; DeviceSetName: R-EU_; LibraryName: resistor; Package: P0817V
footprint P0817V
pins: 1, 2

## R-EU_0817/22
designator R?, comment RESISTOR, European symbol
GateName_1: G$1; SymbolName_1: R-EU-1; DeviceName: 0817/22; DeviceSetName: R-EU_; LibraryName: resistor; Package: P0817/22
footprint P0817/22
pins: 1, 2

## R-EU_0922/22
designator R?, comment RESISTOR, European symbol
GateName_1: G$1; SymbolName_1: R-EU-1; DeviceName: 0922/22; DeviceSetName: R-EU_; LibraryName: resistor; Package: 0922/22
footprint 0922/22
pins: 1, 2

## R-EU_0922V
designator R?, comment RESISTOR, European symbol
GateName_1: G$1; SymbolName_1: R-EU-1; DeviceName: 0922V; DeviceSetName: R-EU_; LibraryName: resistor; Package: 0922V
footprint 0922V
pins: 1, 2

## R-EU_01005
designator R?, comment RESISTOR, European symbol
GateName_1: G$1; SymbolName_1: R-EU-1; DeviceName: 01005; DeviceSetName: R-EU_; LibraryName: resistor; Package: R01005
footprint R01005
pins: 1, 2

## R-EU_1812X7R
designator R?, comment RESISTOR, European symbol
GateName_1: G$1; SymbolName_1: R-EU-1; DeviceName: 1812X7R; DeviceSetName: R-EU_; LibraryName: resistor; Package: 1812X7R
footprint 1812X7R
pins: 1, 2

## R-EU_M0805
designator R?, comment RESISTOR, European symbol
GateName_1: G$1; SymbolName_1: R-EU-1; DeviceName: M0805; DeviceSetName: R-EU_; LibraryName: resistor; Package: M0805
footprint M0805
pins: 1, 2

## R-EU_M1206
designator R?, comment RESISTOR, European symbol
GateName_1: G$1; SymbolName_1: R-EU-1; DeviceName: M1206; DeviceSetName: R-EU_; LibraryName: resistor; Package: M1206
footprint M1206
pins: 1, 2

## R-EU_M1406
designator R?, comment RESISTOR, European symbol
GateName_1: G$1; SymbolName_1: R-EU-1; DeviceName: M1406; DeviceSetName: R-EU_; LibraryName: resistor; Package: M1406
footprint M1406
pins: 1, 2

## R-EU_M2012
designator R?, comment RESISTOR, European symbol
GateName_1: G$1; SymbolName_1: R-EU-1; DeviceName: M2012; DeviceSetName: R-EU_; LibraryName: resistor; Package: M2012
footprint M2012
pins: 1, 2

## R-EU_M2309
designator R?, comment RESISTOR, European symbol
GateName_1: G$1; SymbolName_1: R-EU-1; DeviceName: M2309; DeviceSetName: R-EU_; LibraryName: resistor; Package: M2309
footprint M2309
pins: 1, 2

## R-EU_M3216
designator R?, comment RESISTOR, European symbol
GateName_1: G$1; SymbolName_1: R-EU-1; DeviceName: M3216; DeviceSetName: R-EU_; LibraryName: resistor; Package: M3216
footprint M3216
pins: 1, 2

## R-EU_M3516
designator R?, comment RESISTOR, European symbol
GateName_1: G$1; SymbolName_1: R-EU-1; DeviceName: M3516; DeviceSetName: R-EU_; LibraryName: resistor; Package: M3516
footprint M3516
pins: 1, 2

## R-EU_M5923
designator R?, comment RESISTOR, European symbol
GateName_1: G$1; SymbolName_1: R-EU-1; DeviceName: M5923; DeviceSetName: R-EU_; LibraryName: resistor; Package: M5923
footprint M5923
pins: 1, 2

## R-EU_MELF0102AX
designator R?, comment RESISTOR, European symbol
GateName_1: G$1; SymbolName_1: R-EU-1; DeviceName: MELF0102AX; DeviceSetName: R-EU_; LibraryName: resistor; Package: MINI_MELF-0102AX
footprint MINI_MELF-0102AX
pins: 1, 2

## R-EU_MELF0102R
designator R?, comment RESISTOR, European symbol
GateName_1: G$1; SymbolName_1: R-EU-1; DeviceName: MELF0102R; DeviceSetName: R-EU_; LibraryName: resistor; Package: MINI_MELF-0102R
footprint MINI_MELF-0102R
pins: 1, 2

## R-EU_MELF0102W
designator R?, comment RESISTOR, European symbol
GateName_1: G$1; SymbolName_1: R-EU-1; DeviceName: MELF0102W; DeviceSetName: R-EU_; LibraryName: resistor; Package: MINI_MELF-0102W
footprint MINI_MELF-0102W
pins: 1, 2

## R-EU_MELF0204R
designator R?, comment RESISTOR, European symbol
GateName_1: G$1; SymbolName_1: R-EU-1; DeviceName: MELF0204R; DeviceSetName: R-EU_; LibraryName: resistor; Package: MINI_MELF-0204R
footprint MINI_MELF-0204R
pins: 1, 2

## R-EU_MELF0204W
designator R?, comment RESISTOR, European symbol
GateName_1: G$1; SymbolName_1: R-EU-1; DeviceName: MELF0204W; DeviceSetName: R-EU_; LibraryName: resistor; Package: MINI_MELF-0204W
footprint MINI_MELF-0204W
pins: 1, 2

## R-EU_MELF0207R
designator R?, comment RESISTOR, European symbol
GateName_1: G$1; SymbolName_1: R-EU-1; DeviceName: MELF0207R; DeviceSetName: R-EU_; LibraryName: resistor; Package: MINI_MELF-0207R
footprint MINI_MELF-0207R
pins: 1, 2

## R-EU_MELF0207W
designator R?, comment RESISTOR, European symbol
GateName_1: G$1; SymbolName_1: R-EU-1; DeviceName: MELF0207W; DeviceSetName: R-EU_; LibraryName: resistor; Package: MINI_MELF-0207W
footprint MINI_MELF-0207W
pins: 1, 2

## R-EU_PRL1632
designator R?, comment RESISTOR, European symbol
GateName_1: G$1; SymbolName_1: R-EU-1; DeviceName: PRL1632; DeviceSetName: R-EU_; LibraryName: resistor; Package: PRL1632
footprint PRL1632
pins: 1, 2

## R-EU_R0201
designator R?, comment RESISTOR, European symbol
GateName_1: G$1; SymbolName_1: R-EU-1; DeviceName: R0201; DeviceSetName: R-EU_; LibraryName: resistor; Package: R0201
footprint R0201
pins: 1, 2

## R-EU_R0402
designator R?, comment RESISTOR, European symbol
GateName_1: G$1; SymbolName_1: R-EU-1; DeviceName: R0402; DeviceSetName: R-EU_; LibraryName: resistor; Package: R0402
footprint R0402
pins: 1, 2

## R-EU_R0603
designator R?, comment RESISTOR, European symbol
GateName_1: G$1; SymbolName_1: R-EU-1; DeviceName: R0603; DeviceSetName: R-EU_; LibraryName: resistor; Package: R0603
footprint R0603
pins: 1, 2

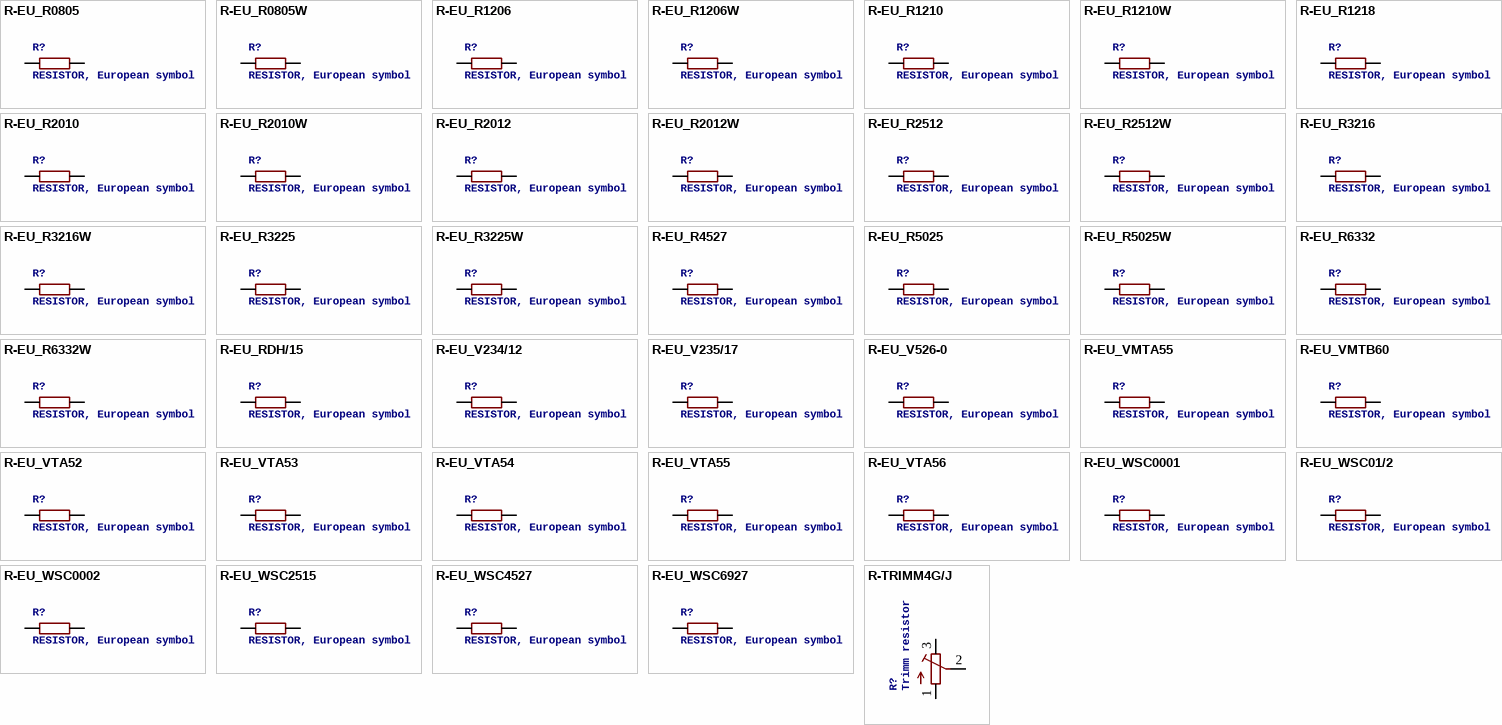
[diagram p15: symbols R-EU_R0805 to R-TRIMM4G/J]

## R-EU_R0805
designator R?, comment RESISTOR, European symbol
GateName_1: G$1; SymbolName_1: R-EU-1; DeviceName: R0805; DeviceSetName: R-EU_; LibraryName: resistor; Package: R0805
footprint R0805
pins: 1, 2

## R-EU_R0805W
designator R?, comment RESISTOR, European symbol
GateName_1: G$1; SymbolName_1: R-EU-1; DeviceName: R0805W; DeviceSetName: R-EU_; LibraryName: resistor; Package: R0805W
footprint R0805W
pins: 1, 2

## R-EU_R1206
designator R?, comment RESISTOR, European symbol
GateName_1: G$1; SymbolName_1: R-EU-1; DeviceName: R1206; DeviceSetName: R-EU_; LibraryName: resistor; Package: R1206
footprint R1206
pins: 1, 2

## R-EU_R1206W
designator R?, comment RESISTOR, European symbol
GateName_1: G$1; SymbolName_1: R-EU-1; DeviceName: R1206W; DeviceSetName: R-EU_; LibraryName: resistor; Package: R1206W
footprint R1206W
pins: 1, 2

## R-EU_R1210
designator R?, comment RESISTOR, European symbol
GateName_1: G$1; SymbolName_1: R-EU-1; DeviceName: R1210; DeviceSetName: R-EU_; LibraryName: resistor; Package: R1210
footprint R1210
pins: 1, 2

## R-EU_R1210W
designator R?, comment RESISTOR, European symbol
GateName_1: G$1; SymbolName_1: R-EU-1; DeviceName: R1210W; DeviceSetName: R-EU_; LibraryName: resistor; Package: R1210W
footprint R1210W
pins: 1, 2

## R-EU_R1218
designator R?, comment RESISTOR, European symbol
GateName_1: G$1; SymbolName_1: R-EU-1; DeviceName: R1218; DeviceSetName: R-EU_; LibraryName: resistor; Package: R1218
footprint R1218
pins: 1, 2

## R-EU_R2010
designator R?, comment RESISTOR, European symbol
GateName_1: G$1; SymbolName_1: R-EU-1; DeviceName: R2010; DeviceSetName: R-EU_; LibraryName: resistor; Package: R2010
footprint R2010
pins: 1, 2

## R-EU_R2010W
designator R?, comment RESISTOR, European symbol
GateName_1: G$1; SymbolName_1: R-EU-1; DeviceName: R2010W; DeviceSetName: R-EU_; LibraryName: resistor; Package: R2010W
footprint R2010W
pins: 1, 2

## R-EU_R2012
designator R?, comment RESISTOR, European symbol
GateName_1: G$1; SymbolName_1: R-EU-1; DeviceName: R2012; DeviceSetName: R-EU_; LibraryName: resistor; Package: R2012
footprint R2012
pins: 1, 2

## R-EU_R2012W
designator R?, comment RESISTOR, European symbol
GateName_1: G$1; SymbolName_1: R-EU-1; DeviceName: R2012W; DeviceSetName: R-EU_; LibraryName: resistor; Package: R2012W
footprint R2012W
pins: 1, 2

## R-EU_R2512
designator R?, comment RESISTOR, European symbol
GateName_1: G$1; SymbolName_1: R-EU-1; DeviceName: R2512; DeviceSetName: R-EU_; LibraryName: resistor; Package: R2512
footprint R2512
pins: 1, 2

## R-EU_R2512W
designator R?, comment RESISTOR, European symbol
GateName_1: G$1; SymbolName_1: R-EU-1; DeviceName: R2512W; DeviceSetName: R-EU_; LibraryName: resistor; Package: R2512W
footprint R2512W
pins: 1, 2

## R-EU_R3216
designator R?, comment RESISTOR, European symbol
GateName_1: G$1; SymbolName_1: R-EU-1; DeviceName: R3216; DeviceSetName: R-EU_; LibraryName: resistor; Package: R3216
footprint R3216
pins: 1, 2

## R-EU_R3216W
designator R?, comment RESISTOR, European symbol
GateName_1: G$1; SymbolName_1: R-EU-1; DeviceName: R3216W; DeviceSetName: R-EU_; LibraryName: resistor; Package: R3216W
footprint R3216W
pins: 1, 2

## R-EU_R3225
designator R?, comment RESISTOR, European symbol
GateName_1: G$1; SymbolName_1: R-EU-1; DeviceName: R3225; DeviceSetName: R-EU_; LibraryName: resistor; Package: R3225
footprint R3225
pins: 1, 2

## R-EU_R3225W
designator R?, comment RESISTOR, European symbol
GateName_1: G$1; SymbolName_1: R-EU-1; DeviceName: R3225W; DeviceSetName: R-EU_; LibraryName: resistor; Package: R3225W
footprint R3225W
pins: 1, 2

## R-EU_R4527
designator R?, comment RESISTOR, European symbol
GateName_1: G$1; SymbolName_1: R-EU-1; DeviceName: R4527; DeviceSetName: R-EU_; LibraryName: resistor; Package: R4527
footprint R4527
pins: 1, 2

## R-EU_R5025
designator R?, comment RESISTOR, European symbol
GateName_1: G$1; SymbolName_1: R-EU-1; DeviceName: R5025; DeviceSetName: R-EU_; LibraryName: resistor; Package: R5025
footprint R5025
pins: 1, 2

## R-EU_R5025W
designator R?, comment RESISTOR, European symbol
GateName_1: G$1; SymbolName_1: R-EU-1; DeviceName: R5025W; DeviceSetName: R-EU_; LibraryName: resistor; Package: R5025W
footprint R5025W
pins: 1, 2

## R-EU_R6332
designator R?, comment RESISTOR, European symbol
GateName_1: G$1; SymbolName_1: R-EU-1; DeviceName: R6332; DeviceSetName: R-EU_; LibraryName: resistor; Package: R6332
footprint R6332
pins: 1, 2

## R-EU_R6332W
designator R?, comment RESISTOR, European symbol
GateName_1: G$1; SymbolName_1: R-EU-1; DeviceName: R6332W; DeviceSetName: R-EU_; LibraryName: resistor; Package: R6332W
footprint R6332W
pins: 1, 2

## R-EU_RDH/15
designator R?, comment RESISTOR, European symbol
GateName_1: G$1; SymbolName_1: R-EU-1; DeviceName: RDH/15; DeviceSetName: R-EU_; LibraryName: resistor; Package: RDH/15
footprint RDH/15
pins: 1, 2

## R-EU_V234/12
designator R?, comment RESISTOR, European symbol
GateName_1: G$1; SymbolName_1: R-EU-1; DeviceName: V234/12; DeviceSetName: R-EU_; LibraryName: resistor; Package: V234/12
footprint V234/12
pins: 1, 2

## R-EU_V235/17
designator R?, comment RESISTOR, European symbol
GateName_1: G$1; SymbolName_1: R-EU-1; DeviceName: V235/17; DeviceSetName: R-EU_; LibraryName: resistor; Package: V235/17
footprint V235/17
pins: 1, 2

## R-EU_V526-0
designator R?, comment RESISTOR, European symbol
GateName_1: G$1; SymbolName_1: R-EU-1; DeviceName: V526-0; DeviceSetName: R-EU_; LibraryName: resistor; Package: V526-0
footprint V526-0
pins: 1, 2

## R-EU_VMTA55
designator R?, comment RESISTOR, European symbol
GateName_1: G$1; SymbolName_1: R-EU-1; DeviceName: VMTA55; DeviceSetName: R-EU_; LibraryName: resistor; Package: VMTA55
footprint VMTA55
pins: 1, 2

## R-EU_VMTB60
designator R?, comment RESISTOR, European symbol
GateName_1: G$1; SymbolName_1: R-EU-1; DeviceName: VMTB60; DeviceSetName: R-EU_; LibraryName: resistor; Package: VMTB60
footprint VMTB60
pins: 1, 2

## R-EU_VTA52
designator R?, comment RESISTOR, European symbol
GateName_1: G$1; SymbolName_1: R-EU-1; DeviceName: VTA52; DeviceSetName: R-EU_; LibraryName: resistor; Package: VTA52
footprint VTA52
pins: 1, 2

## R-EU_VTA53
designator R?, comment RESISTOR, European symbol
GateName_1: G$1; SymbolName_1: R-EU-1; DeviceName: VTA53; DeviceSetName: R-EU_; LibraryName: resistor; Package: VTA53
footprint VTA53
pins: 1, 2

## R-EU_VTA54
designator R?, comment RESISTOR, European symbol
GateName_1: G$1; SymbolName_1: R-EU-1; DeviceName: VTA54; DeviceSetName: R-EU_; LibraryName: resistor; Package: VTA54
footprint VTA54
pins: 1, 2

## R-EU_VTA55
designator R?, comment RESISTOR, European symbol
GateName_1: G$1; SymbolName_1: R-EU-1; DeviceName: VTA55; DeviceSetName: R-EU_; LibraryName: resistor; Package: VTA55
footprint VTA55
pins: 1, 2

## R-EU_VTA56
designator R?, comment RESISTOR, European symbol
GateName_1: G$1; SymbolName_1: R-EU-1; DeviceName: VTA56; DeviceSetName: R-EU_; LibraryName: resistor; Package: VTA56
footprint VTA56
pins: 1, 2

## R-EU_WSC0001
designator R?, comment RESISTOR, European symbol
GateName_1: G$1; SymbolName_1: R-EU-1; DeviceName: WSC0001; DeviceSetName: R-EU_; LibraryName: resistor; Package: WSC0001
footprint WSC0001
pins: 1, 2

## R-EU_WSC01/2
designator R?, comment RESISTOR, European symbol
GateName_1: G$1; SymbolName_1: R-EU-1; DeviceName: WSC01/2; DeviceSetName: R-EU_; LibraryName: resistor; Package: WSC01/2
footprint WSC01/2
pins: 1, 2

## R-EU_WSC0002
designator R?, comment RESISTOR, European symbol
GateName_1: G$1; SymbolName_1: R-EU-1; DeviceName: WSC0002; DeviceSetName: R-EU_; LibraryName: resistor; Package: WSC0002
footprint WSC0002
pins: 1, 2

## R-EU_WSC2515
designator R?, comment RESISTOR, European symbol
GateName_1: G$1; SymbolName_1: R-EU-1; DeviceName: WSC2515; DeviceSetName: R-EU_; LibraryName: resistor; Package: WSC2515
footprint WSC2515
pins: 1, 2

## R-EU_WSC4527
designator R?, comment RESISTOR, European symbol
GateName_1: G$1; SymbolName_1: R-EU-1; DeviceName: WSC4527; DeviceSetName: R-EU_; LibraryName: resistor; Package: WSC4527
footprint WSC4527
pins: 1, 2

## R-EU_WSC6927
designator R?, comment RESISTOR, European symbol
GateName_1: G$1; SymbolName_1: R-EU-1; DeviceName: WSC6927; DeviceSetName: R-EU_; LibraryName: resistor; Package: WSC6927
footprint WSC6927
pins: 1, 2

## R-TRIMM4G/J
designator R?, comment Trimm resistor
GateName_1: G$1; SymbolName_1: R-TRIM-1; DeviceName: 4G/J; DeviceSetName: R-TRIMM; LibraryName: resistor; Package: RTRIM4G/J
footprint RTRIM4G/J
pins: 1 A, 2 S, 3 E

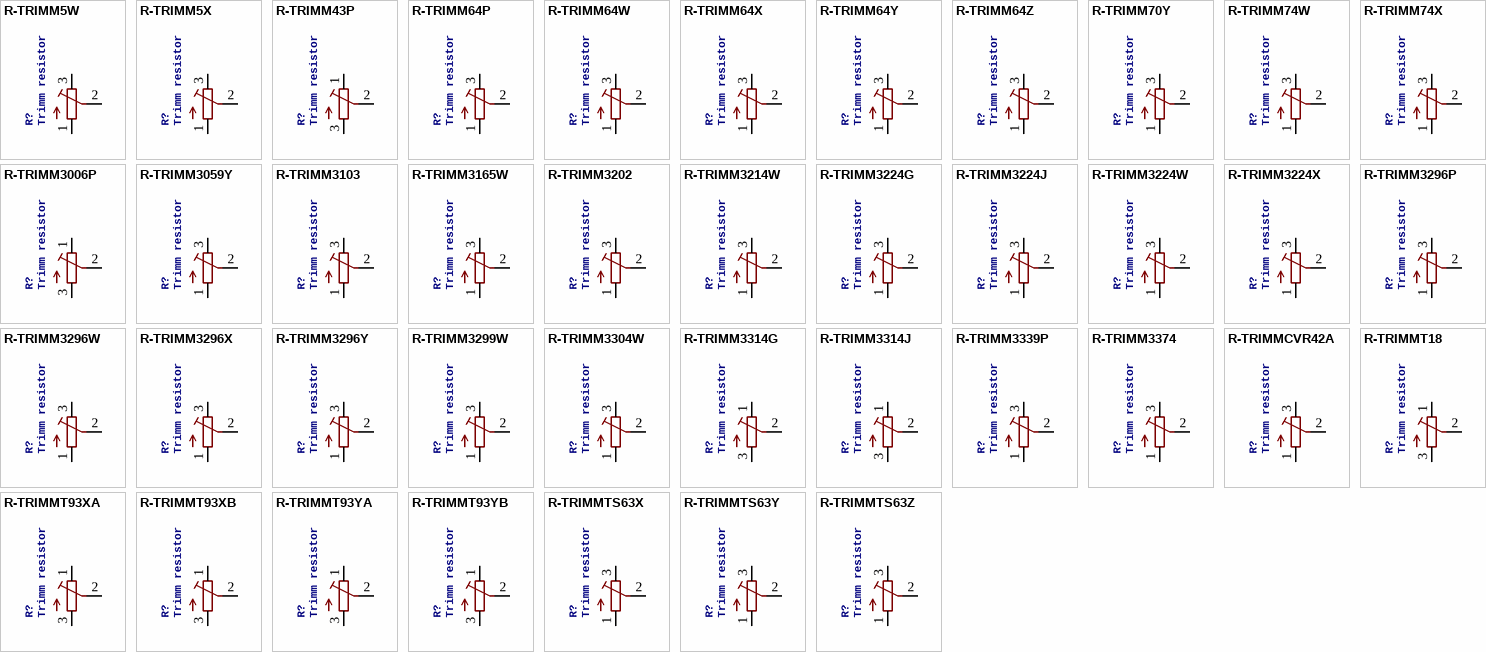
[diagram p16: symbols R-TRIMM5W to R-TRIMMTS63Z]

## R-TRIMM5W
designator R?, comment Trimm resistor
GateName_1: G$1; SymbolName_1: R-TRIM-1; DeviceName: 5W; DeviceSetName: R-TRIMM; LibraryName: resistor; Package: RTRIM5W
footprint RTRIM5W
pins: 1 A, 2 S, 3 E

## R-TRIMM5X
designator R?, comment Trimm resistor
GateName_1: G$1; SymbolName_1: R-TRIM-1; DeviceName: 5X; DeviceSetName: R-TRIMM; LibraryName: resistor; Package: RTRIM5X
footprint RTRIM5X
pins: 1 A, 2 S, 3 E

## R-TRIMM43P
designator R?, comment Trimm resistor
GateName_1: G$1; SymbolName_1: R-TRIM-1; DeviceName: 43P; DeviceSetName: R-TRIMM; LibraryName: resistor; Package: RTRIM43P
footprint RTRIM43P
pins: 1 E, 2 S, 3 A

## R-TRIMM64P
designator R?, comment Trimm resistor
GateName_1: G$1; SymbolName_1: R-TRIM-1; DeviceName: 64P; DeviceSetName: R-TRIMM; LibraryName: resistor; Package: RTRIM64P
footprint RTRIM64P
pins: 1 A, 2 S, 3 E

## R-TRIMM64W
designator R?, comment Trimm resistor
GateName_1: G$1; SymbolName_1: R-TRIM-1; DeviceName: 64W; DeviceSetName: R-TRIMM; LibraryName: resistor; Package: RTRIM64W
footprint RTRIM64W
pins: 1 A, 2 S, 3 E

## R-TRIMM64X
designator R?, comment Trimm resistor
GateName_1: G$1; SymbolName_1: R-TRIM-1; DeviceName: 64X; DeviceSetName: R-TRIMM; LibraryName: resistor; Package: RTRIM64X
footprint RTRIM64X
pins: 1 A, 2 S, 3 E

## R-TRIMM64Y
designator R?, comment Trimm resistor
GateName_1: G$1; SymbolName_1: R-TRIM-1; DeviceName: 64Y; DeviceSetName: R-TRIMM; LibraryName: resistor; Package: RTRIM64Y
footprint RTRIM64Y
pins: 1 A, 2 S, 3 E

## R-TRIMM64Z
designator R?, comment Trimm resistor
GateName_1: G$1; SymbolName_1: R-TRIM-1; DeviceName: 64Z; DeviceSetName: R-TRIMM; LibraryName: resistor; Package: RTRIM64Z
footprint RTRIM64Z
pins: 1 A, 2 S, 3 E

## R-TRIMM70Y
designator R?, comment Trimm resistor
GateName_1: G$1; SymbolName_1: R-TRIM-1; DeviceName: 70Y; DeviceSetName: R-TRIMM; LibraryName: resistor; Package: RTRIM70Y
footprint RTRIM70Y
pins: 1 A, 2 S, 3 E

## R-TRIMM74W
designator R?, comment Trimm resistor
GateName_1: G$1; SymbolName_1: R-TRIM-1; DeviceName: 74W; DeviceSetName: R-TRIMM; LibraryName: resistor; Package: RTRIM74W
footprint RTRIM74W
pins: 1 A, 2 S, 3 E

## R-TRIMM74X
designator R?, comment Trimm resistor
GateName_1: G$1; SymbolName_1: R-TRIM-1; DeviceName: 74X; DeviceSetName: R-TRIMM; LibraryName: resistor; Package: RTRIM74X
footprint RTRIM74X
pins: 1 A, 2 S, 3 E

## R-TRIMM3006P
designator R?, comment Trimm resistor
GateName_1: G$1; SymbolName_1: R-TRIM-1; DeviceName: 3006P; DeviceSetName: R-TRIMM; LibraryName: resistor; Package: RTRIM3006P
footprint RTRIM3006P
pins: 1 E, 2 S, 3 A

## R-TRIMM3059Y
designator R?, comment Trimm resistor
GateName_1: G$1; SymbolName_1: R-TRIM-1; DeviceName: 3059Y; DeviceSetName: R-TRIMM; LibraryName: resistor; Package: RTRIM3059Y
footprint RTRIM3059Y
pins: 1 A, 2 S, 3 E

## R-TRIMM3103
designator R?, comment Trimm resistor
GateName_1: G$1; SymbolName_1: R-TRIM-1; DeviceName: 3103; DeviceSetName: R-TRIMM; LibraryName: resistor; Package: RTRIM3103
footprint RTRIM3103
pins: 1 A, 2 S, 3 E

## R-TRIMM3165W
designator R?, comment Trimm resistor
GateName_1: G$1; SymbolName_1: R-TRIM-1; DeviceName: 3165W; DeviceSetName: R-TRIMM; LibraryName: resistor; Package: RTRIM3165W
footprint RTRIM3165W
pins: 1 A, 2 S, 3 E

## R-TRIMM3202
designator R?, comment Trimm resistor
GateName_1: G$1; SymbolName_1: R-TRIM-1; DeviceName: 3202; DeviceSetName: R-TRIMM; LibraryName: resistor; Package: RTRIM3202
footprint RTRIM3202
pins: 1 A, 2 S, 3 E

## R-TRIMM3214W
designator R?, comment Trimm resistor
GateName_1: G$1; SymbolName_1: R-TRIM-1; DeviceName: 3214W; DeviceSetName: R-TRIMM; LibraryName: resistor; Package: RTRIM3214W
footprint RTRIM3214W
pins: 1 A, 2 S, 3 E

## R-TRIMM3224G
designator R?, comment Trimm resistor
GateName_1: G$1; SymbolName_1: R-TRIM-1; DeviceName: 3224G; DeviceSetName: R-TRIMM; LibraryName: resistor; Package: RTRIM3224G
footprint RTRIM3224G
pins: 1 A, 2 S, 3 E

## R-TRIMM3224J
designator R?, comment Trimm resistor
GateName_1: G$1; SymbolName_1: R-TRIM-1; DeviceName: 3224J; DeviceSetName: R-TRIMM; LibraryName: resistor; Package: RTRIM3224J
footprint RTRIM3224J
pins: 1 A, 2 S, 3 E

## R-TRIMM3224W
designator R?, comment Trimm resistor
GateName_1: G$1; SymbolName_1: R-TRIM-1; DeviceName: 3224W; DeviceSetName: R-TRIMM; LibraryName: resistor; Package: RTRIM3224W
footprint RTRIM3224W
pins: 1 A, 2 S, 3 E

## R-TRIMM3224X
designator R?, comment Trimm resistor
GateName_1: G$1; SymbolName_1: R-TRIM-1; DeviceName: 3224X; DeviceSetName: R-TRIMM; LibraryName: resistor; Package: RTRIM3224X
footprint RTRIM3224X
pins: 1 A, 2 S, 3 E